# Altium schematic symbol library MyLibs_Buttons.SchLib: 2 symbols
Pins are listed as number, name and electrical type; pins without a type are passive.

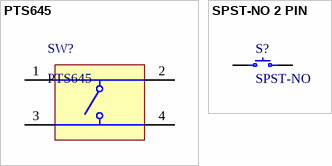
[diagram p0: symbols PTS645 to SPST-NO 2 PIN]

## PTS645
designator SW?
SWITCH TACTILE SPST-NO 0.05A 12V
pins: 1, 2, 3, 4

## SPST-NO 2 PIN
designator S?, comment SPST-NO
Generic SPST NO - 2 terminals
pins: 1, 2